# EAGLE library part IR2175S (library my_ic)
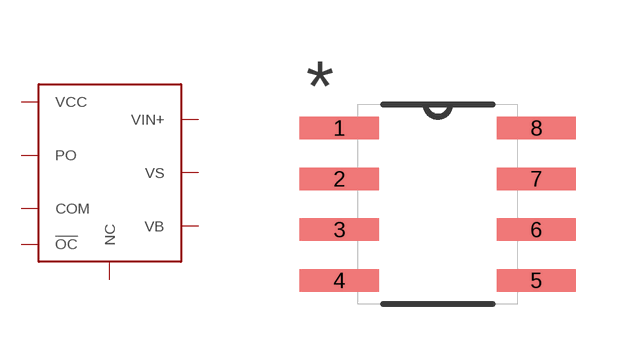
[diagram p21: symbol with the pads of SOIC-8; footprint SOIC-8]

Designator prefix -

## IR2175S  [SOIC-8]
1  VCC
2  PO
3  COM
4  !OC
5  NC
6  VB
7  VS
8  VIN+

## Footprint SOIC-8 (pad centres in mm)
smd 1.981 x 0.559: 1 -2.464,1.905; 2 -2.464,0.635; 3 -2.464,-0.635; 4 -2.464,-1.905; 5 2.464,-1.905; 6 2.464,-0.635; 7 2.464,0.635; 8 2.464,1.905